# Altium footprint library Local Library.PcbLib: 11 footprints
Each footprint in its own frame and in the unit in brackets; x right, y up, seen from the top. Pads: shape width x height; smd on the part's side, far side on the other; paste and mask are expansions set on the pad; w line width, h text height; cw(c..) or ccw(c..) is an arc to the next point about the centre after c.
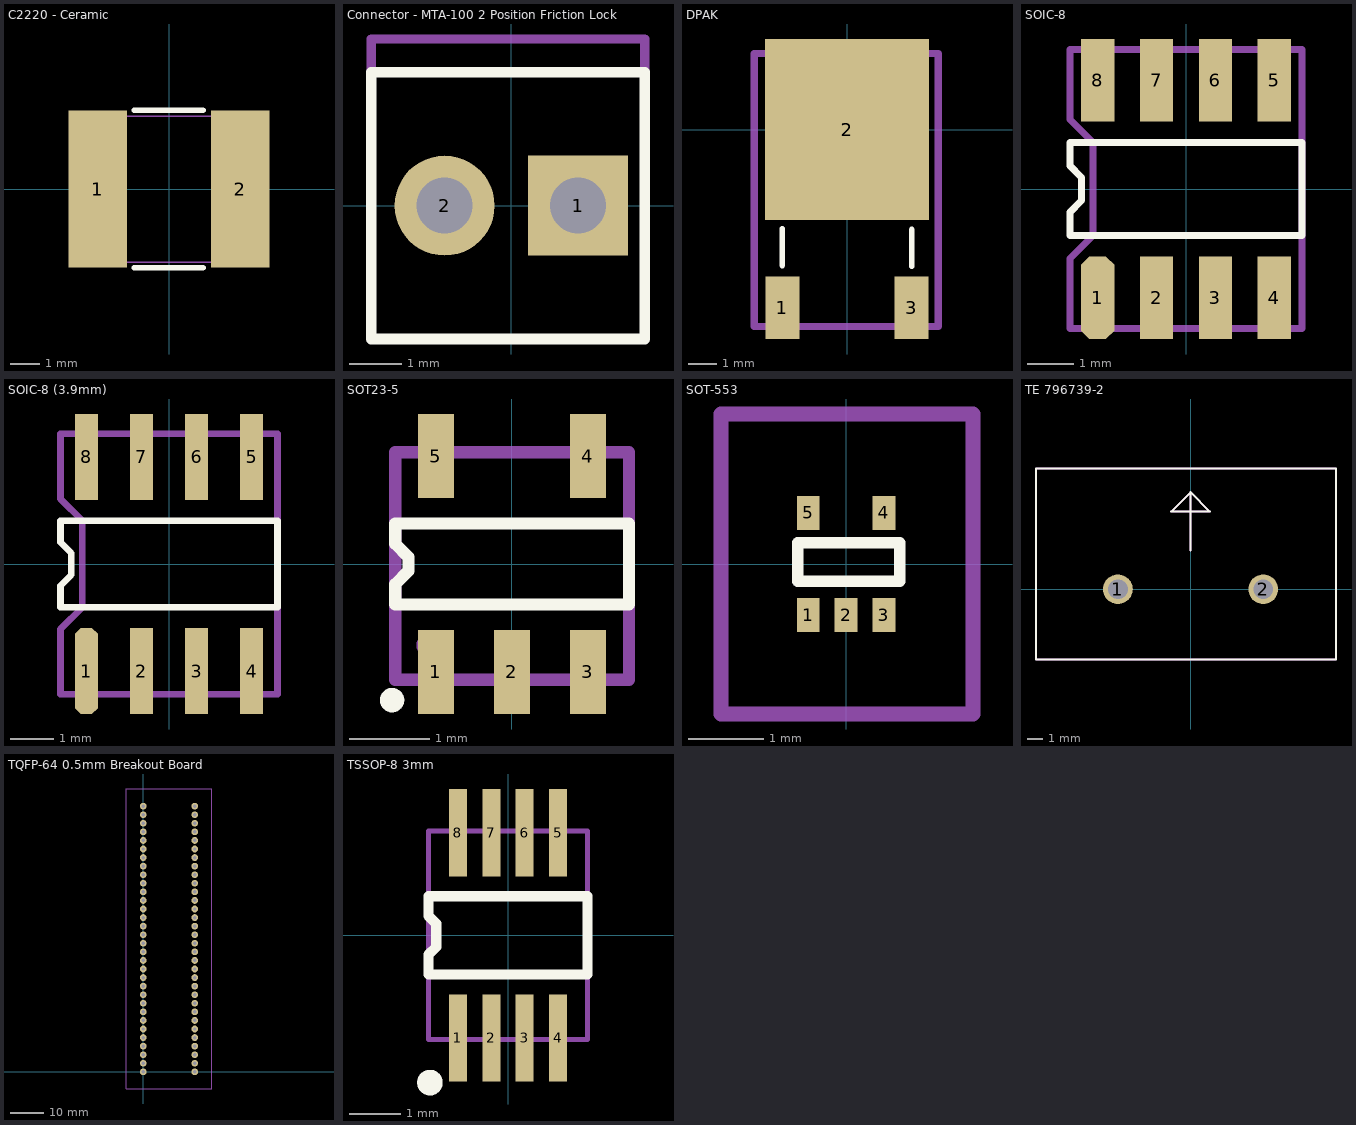
[diagram p0: the footprints below, top view; thin cyan lines are the x and y axes]

## C2220 - Ceramic [mm] "Chip Capacitor, 2-Leads, Body 5.75x5.00mm, IPC Medium Density"
height 2.5
pads (2):
  rect 2x5.4 smd: 1(-2.45,0) 2(2.45,0)
Top Overlay:
  lines w0.2: -1.194,-2.702 1.168,-2.702 ; -1.194,2.702 1.168,2.702
Assembly Top:
  lines w0.05: -2.845,-2.515 2.845,-2.515 2.845,2.489 -2.845,2.489 -2.845,-2.515
  text ".designator" at -1.194,-0.305 h0.76
3D body: height 2.3, standoff 0, extent -2.85,-2.5 2.85,2.5

## Connector - MTA-100 2 Position Friction Lock [mil]
pads (2):
  rect 75x75 hole 42 mask+5: 1(50,0)
  round 75 hole 42 mask+5: 2(-50,0)
Top Overlay:
  lines w8: -105,-100 100,-100 100,100 -105,100 -105,-100
Assembly Top:
  lines w7: -105,-100 -105,125 100,125 100,-100 -105,-100
  text ".designator" at -40,-15 h30
3D body: height 395.6, standoff -139.4, extent -99.99,-104.99 100.01,125.01

## DPAK [mm]
height 2.54
pads (3):
  rect 1.2x2.2 smd: 1(-2.28,-6.3) 3(2.28,-6.3)
  rect 5.8x6.4 smd: 2(0,0)
Top Overlay:
  lines w0.203: -2.286,-4.801 -2.286,-3.505 ; 2.286,-4.826 2.286,-3.531
Assembly Top:
  lines w0.254: -3.277,-6.96 3.226,-6.96 3.226,2.692 -3.277,2.692 -3.277,-6.96
  text ".designator" at -2.196,-3.272 h0.76
3D body: height 2.3, standoff -0.01, extent -3.315,-7.061 3.265,2.639

## SOIC-8 [mm] "Copper Only"
pads (8):
  oct 0.72x1.78 smd: 1(-1.905,-2.34)
  rect 0.72x1.78 smd: 2(-0.635,-2.34) 3(0.635,-2.34) 4(1.905,-2.34) 5(1.905,2.34) 6(0.635,2.34) 7(-0.635,2.34) 8(-1.905,2.34)
Top Overlay:
  lines w0.152: -2.5,-1 2.5,-1 2.5,1 -2.5,1 -2.5,0.5 -2.25,0.25 -2.25,-0.25 -2.5,-0.5 -2.5,-1
Assembly Top:
  lines w0.152: -2.5,-3 2.5,-3 2.5,3 -2.5,3 -2.5,1.5 -2,1 -2,-1 -2.5,-1.5 -2.5,-3
  text ".designator" at -1.25,-0.25 h0.76
3D body: height 1.61, standoff -0.14, extent -2.5,-3 2.5,3

## SOIC-8 (3.9mm) [mm]
pads (8):
  oct 0.53x1.98 smd: 1(-1.905,-2.465)
  rect 0.53x1.98 smd: 2(-0.635,-2.465) 3(0.635,-2.465) 4(1.905,-2.465) 5(1.905,2.465) 6(0.635,2.465) 7(-0.635,2.465) 8(-1.905,2.465)
Top Overlay:
  lines w0.152: -2.5,-1 2.5,-1 2.5,1 -2.5,1 -2.5,0.5 -2.25,0.25 -2.25,-0.25 -2.5,-0.5 -2.5,-1
Assembly Top:
  lines w0.152: -2.5,-3 2.5,-3 2.5,3 -2.5,3 -2.5,1.5 -2,1 -2,-1 -2.5,-1.5 -2.5,-3
  text ".designator" at -1.25,-0.25 h0.76
3D body: height 1.61, standoff -0.14, extent -2.5,-3 2.5,3

## SOT23-5 [mm]
pads (5):
  rect 0.45x1.05 smd: 1(-0.95,-1.35) 2(0,-1.35) 3(0.95,-1.35) 4(0.95,1.35) 5(-0.95,1.35)
Top Overlay:
  circle w0.152: c-1.499,-1.702 r0.076
  lines w0.152: -1.46,-0.508 -1.46,-0.254 -1.295,-0.089 -1.295,0.089 -1.46,0.254 -1.46,0.508 1.461,0.508 1.461,-0.508 -1.46,-0.508
Assembly Top:
  circle w0.152: c-1.041,-1.016 r0.076
  lines w0.152: -1.46,-1.448 1.461,-1.448 1.461,1.397 -1.46,1.397 -1.46,-1.448
  text ".designator" at -0.991,-0.381 h0.76
3D body: height 1.12, standoff 0.03, extent -1.46,-1.422 1.461,1.423

## SOT-553 [mm]
pads (5):
  rect 0.3x0.45 smd: 1(-0.5,-0.675) 2(0,-0.675) 3(0.5,-0.675) 4(0.5,0.675) 5(-0.5,0.675)
Top Overlay:
  lines w0.152: -0.635,-0.229 -0.635,0.279 0.711,0.279 0.711,-0.229 -0.635,-0.229
Assembly Top:
  lines w0.203: -1.651,-1.981 -1.651,1.981 1.676,1.981 1.676,-1.981 -1.651,-1.981
  text "." at -0.991,-1.6 h0.76
  text ".designator" at -1.31,-0.27 h0.76
3D body: height 0.45, standoff -0.05, extent -0.8,-0.8 0.8,0.8

## TE 796739-2 [mm]
pads (2):
  round 1.95 hole 1.3: 1(-4.76,0) 2(4.76,0)
Top Overlay:
  lines w0.127: 0,2.54 0,6.35 ; -10.12,7.9 9.52,7.9 ; -10.12,7.9 -10.12,7.9 ; -10.12,7.9 -10.12,-4.6 9.52,-4.6 9.52,7.9 ; 0,6.35 -1.27,5.08 1.27,5.08 0,6.35 ; 9.52,7.9 9.52,7.9
Assembly Top:
  lines w0.127: 0,2.54 0,6.35 ; -10.12,7.9 -10.12,-4.6 9.52,-4.6 9.52,7.9 ; -10.12,7.9 -10.12,7.9 ; -10.12,7.9 9.52,7.9 ; 0,6.35 1.27,5.08 -1.27,5.08 0,6.35 ; 9.52,7.9 9.52,7.9
  text ".designator" at -0.889,0.254 h1.52
3D body: height 21.51, standoff -4.99, extent -10.12,-4.6 9.52,7.9

## TQFP-64 0.5mm Breakout Board [mm]
pads (64):
  round 2 hole 1.02: 1(0,0) 2(0,2.54) 3(0,5.08) 4(0,7.62) 5(0,10.16) 6(0,12.7) 7(0,15.24) 8(0,17.78) 9(0,20.32) 10(0,22.86) 11(0,25.4) 12(0,27.94) 13(0,30.48) 14(0,33.02) 15(0,35.56) 16(0,38.1) 17(0,40.64) 18(0,43.18) 19(0,45.72) 20(0,48.26) 21(0,50.8) 22(0,53.34) 23(0,55.88) 24(0,58.42) 25(0,60.96) 26(0,63.5) 27(0,66.04) 28(0,68.58) 29(0,71.12) 30(0,73.66) 31(0,76.2) 32(0,78.74) 33(15.24,78.74) 34(15.24,76.2) 35(15.24,73.66) 36(15.24,71.12) 37(15.24,68.58) 38(15.24,66.04) 39(15.24,63.5) 40(15.24,60.96) 41(15.24,58.42) 42(15.24,55.88) 43(15.24,53.34) 44(15.24,50.8) 45(15.24,48.26) 46(15.24,45.72) 47(15.24,43.18) 48(15.24,40.64) 49(15.24,38.1) 50(15.24,35.56) 51(15.24,33.02) 52(15.24,30.48) 53(15.24,27.94) 54(15.24,25.4) 55(15.24,22.86) 56(15.24,20.32) 57(15.24,17.78) 58(15.24,15.24) 59(15.24,12.7) 60(15.24,10.16) 61(15.24,7.62) 62(15.24,5.08) 63(15.24,2.54) 64(15.24,0)
Assembly Top:
  lines w0.127: -5.08,-5.08 20.32,-5.08 20.32,83.82 -5.08,83.82 -5.08,-5.08
  text ".designator" at 5.08,38.1 h1.52
3D body: height 10, standoff 8.5, extent -5.08,-5.08 20.32,83.82
3D body: height 8.51, standoff -3.09, extent -1.25,-1.52 1.25,80.26
3D body: height 8.51, standoff -3.09, extent 13.99,-1.52 16.49,80.26

## Transformer [mm]
3D body: height 85.74, standoff 0.01, extent -35.719,-43.656 35.719,42.227

## TSSOP-8 3mm [mm]
pads (8):
  rect 0.35x1.7 smd: 1(-0.975,-2) 2(-0.325,-2) 3(0.325,-2) 4(0.975,-2) 5(0.975,2) 6(0.325,2) 7(-0.325,2) 8(-0.975,2)
Top Overlay:
  circle w0.25: c-1.522,-2.87 r0.125
  lines w0.2: -1.55,-0.762 -1.55,-0.381 -1.397,-0.228 -1.397,0.228 -1.55,0.381 -1.55,0.762 1.55,0.762 1.55,-0.762 -1.55,-0.762
Assembly Top:
  lines w0.1: -1.549,-2.032 -1.549,2.032 1.549,2.032 1.549,-2.032 -1.549,-2.032
  text ".designator" at -0.635,-0.254 h0.76
3D body: height 1.1, standoff 0, extent -1.55,-2.05 1.55,2.05